# Altium footprint library Custom.PcbLib: 446 footprints (part 25 of 28)
Each footprint in its own frame and in the unit in brackets; x right, y up, seen from the top. Pads: shape width x height; smd on the part's side, far side on the other; paste and mask are expansions set on the pad; w line width, h text height; cw(c..) or ccw(c..) is an arc to the next point about the centre after c.
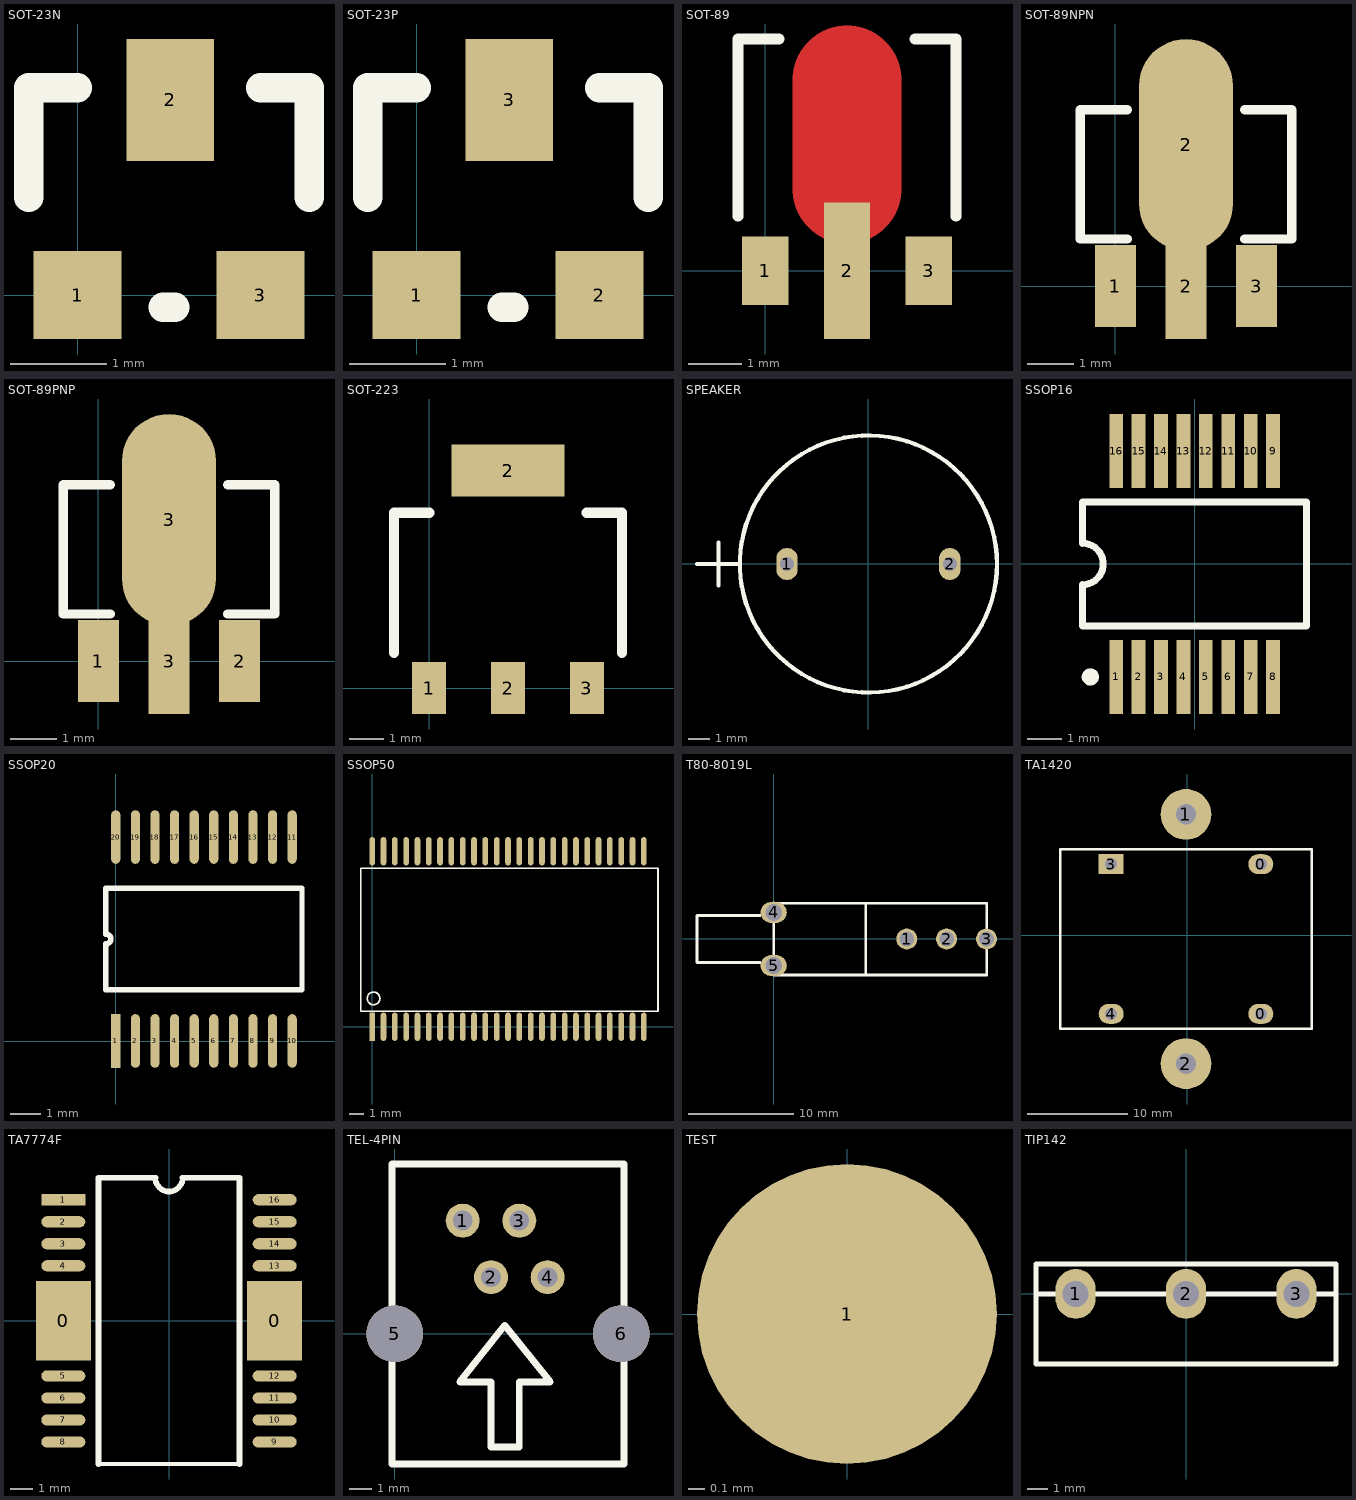
[diagram p24: the footprints below, top view; thin cyan lines are the x and y axes]

## SOT-23N [mil]
pads (3):
  rect 36x36 smd: 1(0,0) 3(75,0)
  rect 36x50 smd: 2(38,80)
Top Overlay:
  lines w12: -20,40 -20,85 0,85 ; 35,-5 40,-5 ; 75,85 95,85 95,40

## SOT-23P [mil]
pads (3):
  rect 36x36 smd: 1(0,0) 2(75,0)
  rect 36x50 smd: 3(38,80)
Top Overlay:
  lines w12: -20,40 -20,85 0,85 ; 35,-5 40,-5 ; 75,85 95,85 95,40

## SOT-89 [mil]
pads (3):
  rect 34x50 smd: 1(0,0) 3(120,0)
  rect 34x100 smd: 2(60,0)
Top Layer:
  lines w80: 60,60 60,140
Top Overlay:
  lines w8: -20,40 -20,170 10,170 ; 110,170 140,170 140,40

## SOT-89NPN [mil]
pads (4):
  rect 35x70 smd: 1(0,0) 3(120,0)
  rect 35x90 smd: 2(60,0)
  oval 80x180 smd: 2(60,120)
Top Overlay:
  lines w8: 10,40 -30,40 -30,150 10,150 ; 110,40 150,40 150,150 110,150

## SOT-89PNP [mil]
pads (4):
  rect 35x70 smd: 1(0,0) 2(120,0)
  rect 35x90 smd: 3(60,0)
  oval 80x180 smd: 3(60,120)
Top Overlay:
  lines w8: 10,40 -30,40 -30,150 10,150 ; 110,40 150,40 150,150 110,150

## SOT-223 [mil]
pads (4):
  rect 39x59 smd: 1(0,0) 3(180,0)
  rect 38.98x59.06 smd: 2(90,0)
  rect 129.13x59 smd: 2(90,248.03)
Top Overlay:
  lines w11.81: -40,40 -40,200 0,200 ; 180,200 220,200 220,40

## SPEAKER [mm]
pads (2):
  oval 1x1.5 hole 0.65: 1(-3.796,-0.001) 2(3.804,-0.001)
Top Overlay:
  circle w0.2: c0.004,-0.001 r6
  lines w0.2: -7.996,-0.001 -5.996,-0.001 ; -6.996,-1.001 -6.996,0.999

## SSOP16 [mm] "SSOP; 16 Leads; Body Width 5.3 mm; Pitch 0.65 mm"
height 1.99
pads (16):
  rect 0.4x2.15 smd: 1(-2.275,-3.275) 2(-1.625,-3.275) 3(-0.975,-3.275) 4(-0.325,-3.275) 5(0.325,-3.275) 6(0.975,-3.275) 7(1.625,-3.275) 8(2.275,-3.275) 9(2.275,3.275) 10(1.625,3.275) 11(0.975,3.275) 12(0.325,3.275) 13(-0.325,3.275) 14(-0.975,3.275) 15(-1.625,3.275) 16(-2.275,3.275)
Top Overlay:
  circle w0.25: c-3.025,-3.275 r0.125
  lines w0.2: -3.25,-1.8 -3.25,-0.6 ccw(c-3.25,0) -3.25,0.6 -3.25,1.8 3.25,1.8 3.25,-1.8 -3.25,-1.8

## SSOP20 [mil]
pads (20):
  rect 12x70 smd: 1(0,0.06)
  oval 12x70 smd: 2(25.59,0.06) 3(51.18,0.06) 4(76.77,0.06) 5(102.36,0.06) 6(127.95,0.06) 7(153.54,0.06) 8(179.13,0.06) 9(204.72,0.06) 10(230.31,0.06) 11(230.31,266.28) 12(204.72,266.28) 13(179.13,266.28) 14(153.54,266.28) 15(127.95,266.28) 16(102.36,266.28) 17(76.77,266.28) 18(51.18,266.28) 19(25.59,266.28) 20(0,266.28)
Top Overlay:
  lines w7.09: -12.79,66.84 243.11,66.84 243.11,199.51 -12.79,199.51 -12.79,139.57 cw(c-12.79,133.17) -12.8,126.78 -12.79,66.84

## SSOP50 [mm]
pads (50):
  rect 0.4x2 smd: 1(0,0)
  oval 0.4x2 smd: 2(0.8,0) 3(1.6,0) 4(2.4,0) 5(3.2,0) 6(4,0) 7(4.8,0) 8(5.6,0) 9(6.4,0) 10(7.2,0) 11(8,0) 12(8.8,0) 13(9.6,0) 14(10.4,0) 15(11.2,0) 16(12,0) 17(12.8,0) 18(13.6,0) 19(14.4,0) 20(15.2,0) 21(16,0) 22(16.8,0) 23(17.6,0) 24(18.4,0) 25(19.2,0) 26(19.2,12.4) 27(18.4,12.4) 28(17.6,12.4) 29(16.8,12.4) 30(16,12.4) 31(15.2,12.4) 32(14.4,12.4) 33(13.6,12.4) 34(12.8,12.4) 35(12,12.4) 36(11.2,12.4) 37(10.4,12.4) 38(9.6,12.4) 39(8.8,12.4) 40(8,12.4) 41(7.2,12.4) 42(6.4,12.4) 43(5.6,12.4) 44(4.8,12.4) 45(4,12.4) 46(3.2,12.4) 47(2.4,12.4) 48(1.6,12.4) 49(0.8,12.4) 50(0,12.4)
Top Overlay:
  circle w0.127: c0.1,2 r0.447
  lines w0.127: -0.8,1.1 -0.8,11.2 20.2,11.2 20.2,1.1 -0.8,1.1

## T80-8019L [mm]
pads (5):
  round 2 hole 1.4: 1(12.686,-0.01) 2(16.486,-0.01) 3(20.296,-0.01)
  oval 2.5x2 hole 1.6: 4(-0.014,2.53) 5(-0.014,-2.55)
Top Overlay:
  lines w0.254: -1.289,-2.26 -7.334,-2.26 -7.334,2.24 -1.289,2.24 ; -0.014,3.415 20.311,3.415 20.311,-2.55 20.311,-3.435 20.306,-3.44 -0.014,-3.44 -0.014,3.42 ; 8.786,-3.44 8.786,3.415

## TA1420 [mm]
pads (6):
  oval 2.5x2 hole 1.2: 0(7.38,-7.888) 0(7.38,7.112) 4(-7.62,-7.888)
  round 5.08 hole 2.032: 1(-0.12,12.112) 2(-0.12,-12.888)
  rect 2.5x2 hole 1.2: 3(-7.62,7.112)
Top Overlay:
  lines w0.254: -1.92,8.612 12.48,8.612 12.48,-9.388 -12.72,-9.388 -12.72,8.612 -0.22,8.612

## TA7774F [mm]
pads (18):
  rect 2.5x3.6 smd: 0(-4.8,0) 0(4.8,0)
  rect 2x0.508 smd: 1(-4.8,5.5)
  oval 2x0.508 smd: 2(-4.8,4.5) 3(-4.8,3.5) 4(-4.8,2.5) 5(-4.8,-2.5) 6(-4.8,-3.5) 7(-4.8,-4.5) 8(-4.8,-5.5) 9(4.8,-5.5) 10(4.8,-4.5) 11(4.8,-3.5) 12(4.8,-2.5) 13(4.8,2.5) 14(4.8,3.5) 15(4.8,4.5) 16(4.8,5.5)
Top Overlay:
  lines w0.2: -3.2,-6.5 3.2,-6.5
  lines w0.254: -3.2,-6.5 -3.2,6.5 -0.6,6.5 ; -0.625,6.5 ccw(c0,6.5) 0.625,6.5 ; 0.6,6.5 3.2,6.5 3.2,-6.5

## TEL-4PIN [mil]
pads (6):
  round 60 hole 35: 1(120,200) 2(170,100) 3(220,200) 4(270,100)
  round 100 hole 100: 5(0,0) 6(400,0)
Top Overlay:
  lines w12: -5,-230 -5,300 405,300 405,-230 -5,-230 ; 115,-85 194.39,15 274.39,-85 220,-85 220,-200 170,-200 170,-85 115,-85

## TEST [mil]
pads (1):
  round 70 smd: 1(0,0)

## TIP142 [mil]
pads (3):
  oval 79x98 hole 51: 1(-217,0) 2(0,0) 3(217,0)
Top Overlay:
  lines w10: -295,0 295,0 ; -295,-138 295,-138 295,59 -295,59 -295,-138